# Altium schematic symbol library PTC Fuse.SchLib: 1 symbol
Pins are listed as number, name and electrical type; pins without a type are passive.

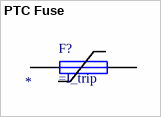
[diagram p0: symbol PTC Fuse]

## PTC Fuse
designator F?
Fuse; Published: 8-Jun-2000; LatestRevisionDate: 17-Jul-2002; LatestRevisionNote: Re-released for DXP Platform.; PackageReference: PIN-W2/E2.8; Publisher: Altium Limited; PackageDescription: Thru-Hole; 2 Leads; I_hold: *
footprint PIN-W2/E2.8 (Thru-Hole; 2 Leads)
simulation model FUSE (Spice Subcircuit)
pins: 1, 2